# Altium integrated library WE-TI HV Radial Leaded Wire Wound Inductor (High Voltage).IntLib: 10 symbols
Pins are listed as number, name and electrical type; pins without a type are passive.

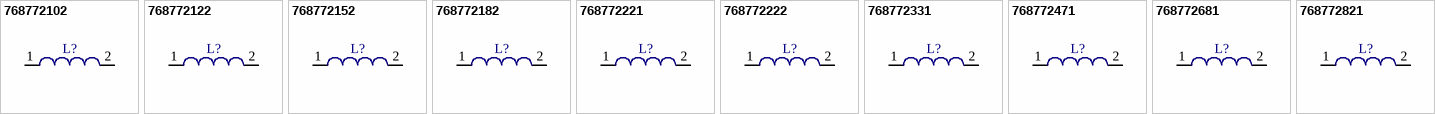
[diagram p0: symbols 768772102 to 768772821]

## 768772102
designator L?
SMD-Radial Leaded Wire Wound  Inductor WE-TI HV, L=1000 µH; PartNumber: 768772102; Inductance: 1000 µH; PackageReference: 8095; ComponentLink1Description: Manufacturer URL; ComponentLink1URL: http://www.we-online.com; ComponentLink2Description: Datasheet; ComponentLink2URL: http://www.we-online.de/katalog/media/pdf/768772102.pdf
footprint 8095 (THT, 2-PIN, Body (7.8 X7.8 mm),pitch 5mm)
pins: 1, 2

## 768772122
designator L?
SMD-Radial Leaded Wire Wound  Inductor WE-TI HV, L=1200 µH; PartNumber: 768772122; Inductance: 1200 µH; PackageReference: 8095; ComponentLink1Description: Manufacturer URL; ComponentLink1URL: http://www.we-online.com; ComponentLink2Description: Datasheet; ComponentLink2URL: http://www.we-online.de/katalog/media/pdf/768772122.pdf
footprint 8095 (THT, 2-PIN, Body (7.8 X7.8 mm),pitch 5mm)
pins: 1, 2

## 768772152
designator L?
SMD-Radial Leaded Wire Wound  Inductor WE-TI HV, L=1500 µH; PartNumber: 768772152; Inductance: 1500 µH; PackageReference: 8095; ComponentLink1Description: Manufacturer URL; ComponentLink1URL: http://www.we-online.com; ComponentLink2Description: Datasheet; ComponentLink2URL: http://www.we-online.de/katalog/media/pdf/768772152.pdf
footprint 8095 (THT, 2-PIN, Body (7.8 X7.8 mm),pitch 5mm)
pins: 1, 2

## 768772182
designator L?
SMD-Radial Leaded Wire Wound  Inductor WE-TI HV, L=1800 µH; PartNumber: 768772182; Inductance: 1800 µH; PackageReference: 8095; ComponentLink1Description: Manufacturer URL; ComponentLink1URL: http://www.we-online.com; ComponentLink2Description: Datasheet; ComponentLink2URL: http://www.we-online.de/katalog/media/pdf/768772182.pdf
footprint 8095 (THT, 2-PIN, Body (7.8 X7.8 mm),pitch 5mm)
pins: 1, 2

## 768772221
designator L?
SMD-Radial Leaded Wire Wound  Inductor WE-TI HV, L=220 µH; PartNumber: 768772221; Inductance: 220 µH; PackageReference: 8095; ComponentLink1Description: Manufacturer URL; ComponentLink1URL: http://www.we-online.com; ComponentLink2Description: Datasheet; ComponentLink2URL: http://www.we-online.de/katalog/media/pdf/768772221.pdf
footprint 8095 (THT, 2-PIN, Body (7.8 X7.8 mm),pitch 5mm)
pins: 1, 2

## 768772222
designator L?
SMD-Radial Leaded Wire Wound  Inductor WE-TI HV, L=2200 µH; PartNumber: 768772222; Inductance: 2200 µH; PackageReference: 8095; ComponentLink1Description: Manufacturer URL; ComponentLink1URL: http://www.we-online.com; ComponentLink2Description: Datasheet; ComponentLink2URL: http://www.we-online.de/katalog/media/pdf/768772222.pdf
footprint 8095 (THT, 2-PIN, Body (7.8 X7.8 mm),pitch 5mm)
pins: 1, 2

## 768772331
designator L?
SMD-Radial Leaded Wire Wound  Inductor WE-TI HV, L=330 µH; PartNumber: 768772331; Inductance: 330 µH; PackageReference: 8095; ComponentLink1Description: Manufacturer URL; ComponentLink1URL: http://www.we-online.com; ComponentLink2Description: Datasheet; ComponentLink2URL: http://www.we-online.de/katalog/media/pdf/768772331.pdf
footprint 8095 (THT, 2-PIN, Body (7.8 X7.8 mm),pitch 5mm)
pins: 1, 2

## 768772471
designator L?
SMD-Radial Leaded Wire Wound  Inductor WE-TI HV, L=470 µH; PartNumber: 768772471; Inductance: 470 µH; PackageReference: 8095; ComponentLink1Description: Manufacturer URL; ComponentLink1URL: http://www.we-online.com; ComponentLink2Description: Datasheet; ComponentLink2URL: http://www.we-online.de/katalog/media/pdf/768772471.pdf
footprint 8095 (THT, 2-PIN, Body (7.8 X7.8 mm),pitch 5mm)
pins: 1, 2

## 768772681
designator L?
SMD-Radial Leaded Wire Wound  Inductor WE-TI HV, L=680 µH; PartNumber: 768772681; Inductance: 680 µH; PackageReference: 8095; ComponentLink1Description: Manufacturer URL; ComponentLink1URL: http://www.we-online.com; ComponentLink2Description: Datasheet; ComponentLink2URL: http://www.we-online.de/katalog/media/pdf/768772681.pdf
footprint 8095 (THT, 2-PIN, Body (7.8 X7.8 mm),pitch 5mm)
pins: 1, 2

## 768772821
designator L?
SMD-Radial Leaded Wire Wound  Inductor WE-TI HV, L=820 µH; PartNumber: 768772821; Inductance: 820 µH; PackageReference: 8095; ComponentLink1Description: Manufacturer URL; ComponentLink1URL: http://www.we-online.com; ComponentLink2Description: Datasheet; ComponentLink2URL: http://www.we-online.de/katalog/media/pdf/768772821.pdf
footprint 8095 (THT, 2-PIN, Body (7.8 X7.8 mm),pitch 5mm)
pins: 1, 2